# Altium schematic symbol library WCH-CH32V305FBP6.SchLib: 1 symbol
Pins are listed as number, name and electrical type; pins without a type are passive.

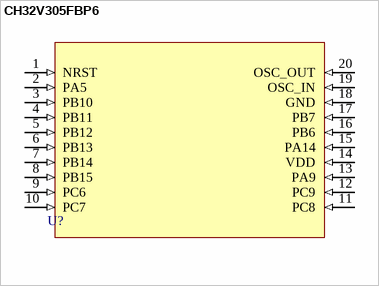
[diagram p0: symbol CH32V305FBP6]

## CH32V305FBP6
designator U?
pins: 1 NRST (in), 2 PA5 (in), 3 PB10 (in), 4 PB11 (in), 5 PB12 (in), 6 PB13 (in), 7 PB14 (in), 8 PB15 (in), 9 PC6 (in), 10 PC7 (in), 11 PC8 (in), 12 PC9 (in), 13 PA9 (in), 14 VDD (in), 15 PA14 (in), 16 PB6 (in), 17 PB7 (in), 18 GND (in), 19 OSC_IN (in), 20 OSC_OUT (in)